# Altium schematic symbol library LM3915.SchLib: 1 symbol
Pins are listed as number, name and electrical type; pins without a type are passive.

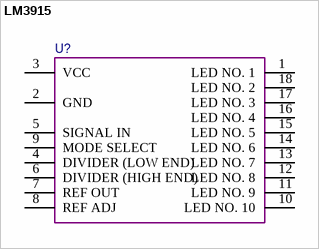
[diagram p0: symbol LM3915]

## LM3915
designator U?  (value not drawn)
pins: 1 LED NO. 1, 2 GND, 3 VCC, 4 DIVIDER (LOW END), 5 SIGNAL IN, 6 DIVIDER (HIGH END), 7 REF OUT, 8 REF ADJ, 9 MODE SELECT, 10 LED NO. 10, 11 LED NO. 9, 12 LED NO. 8, 13 LED NO. 7, 14 LED NO. 6, 15 LED NO. 5, 16 LED NO. 4, 17 LED NO. 3, 18 LED NO. 2